# Altium footprint library dinhdung.PcbLib: 24 footprints (part 1 of 2)
Each footprint in its own frame and in the unit in brackets; x right, y up, seen from the top. Pads: shape width x height; smd on the part's side, far side on the other; paste and mask are expansions set on the pad; w line width, h text height; cw(c..) or ccw(c..) is an arc to the next point about the centre after c.
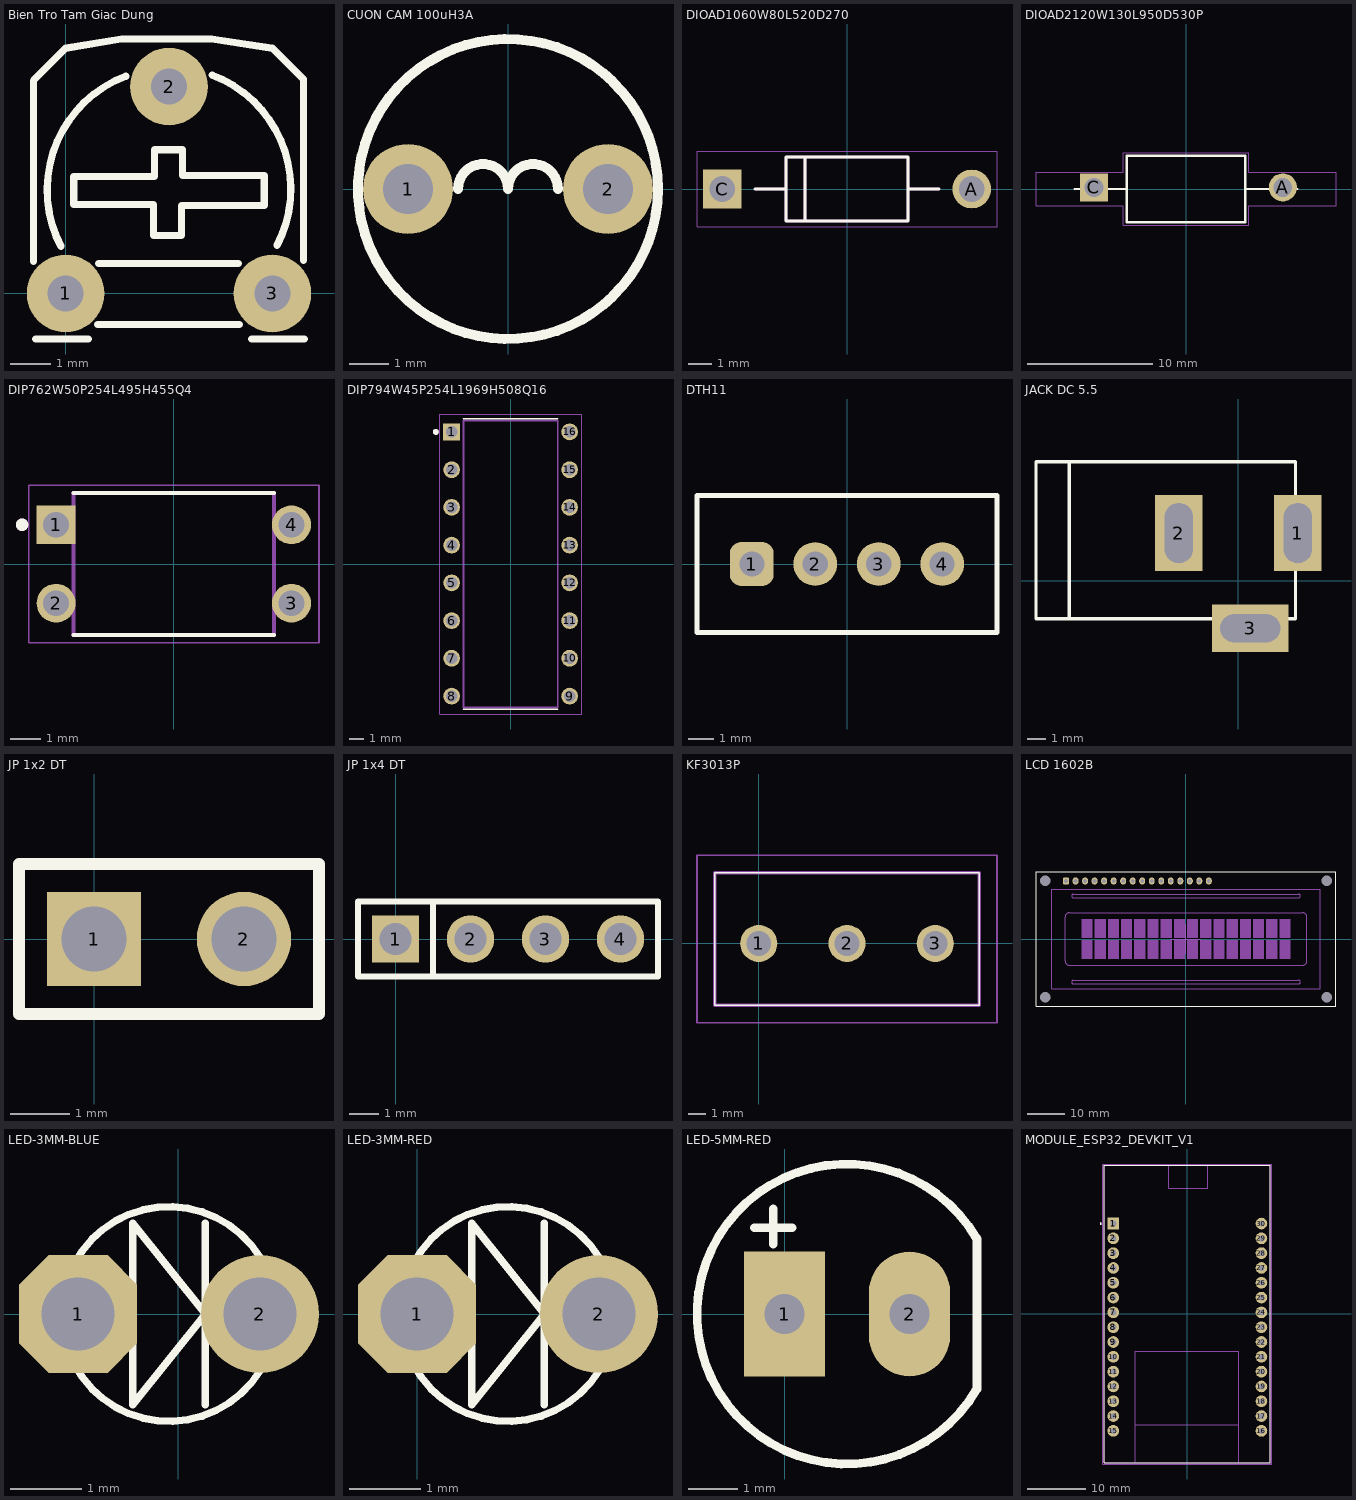
[diagram p0: the footprints below, top view; thin cyan lines are the x and y axes]

## Bien Tro Tam Giac Dung [mil]
pads (3):
  round 75 hole 35: 1(0,0) 2(100,200) 3(200,0)
Top Overlay:
  lines w7: -31,31 -31,206 0,237 54,246 141.5,246 200,237 230,207 230,32 ; -29,-44 22,-44 ; -4.35,45.34 cw(c100,100) 58.1,210.1 ; 8,113 8,86 85,86 85,56 112,56 112,85 192,85 192,114 113,114 113,139 86,139 86,113 9,113 ; 31,-30 168,-30 ; 32,29 167,29 ; 141.9,211.1 cw(c100,101) 204.35,46.34 ; 180,-44 231,-44
3D body "Bien TroTam Giac.step": height 278.74, standoff -150.39, extent -27.95,-49.68 227.95,227.88

## CUON CAM 100uH3A [mil]
pads (2):
  round 90 hole 50: 1(-100,0) 2(100,0)
Top Overlay:
  circle w10: c0,0 r150
  lines w10: -50,0 cw(c-25,0) 0,0 cw(c25,0) 50,0
3D body "cuon cam cam 1A.step": height 394.18, standoff -196.37, extent -171.27,-175.26 171.25,167.26

## DIOAD1060W80L520D270 [mm]
pads (2):
  round 1.65 hole 1.1: A(5.3,0)
  rect 1.65x1.65 / inner round 1.65 / far side rect 1.65x1.65 hole 1.1: C(-5.3,0)
Top Overlay:
  lines w0.127: -3.9,0 -2.6,0 ; 3.9,0 2.6,0 ; -2.6,0 -2.6,1.35 -1.775,1.35 ; -2.6,0 -2.6,-1.35 -1.775,-1.35 ; -1.775,-1.35 2.6,-1.35 2.6,0 ; -1.775,-1.35 -1.775,1.35 ; -1.775,1.35 2.6,1.35 2.6,0
Mechanical 13:
  lines w0.127: -3.9,0 -2.6,0 ; 3.9,0 2.6,0 ; -2.6,0 -2.6,1.35 -1.775,1.35 ; -2.6,0 -2.6,-1.35 -1.775,-1.35 ; -1.775,-1.35 2.6,-1.35 2.6,0 ; -1.775,-1.35 -1.775,1.35 ; -1.775,1.35 2.6,1.35 2.6,0
Mechanical 15:
  lines w0.05: -6.375,-1.6 6.375,-1.6 6.375,1.6 -6.375,1.6 -6.375,-1.6
3D body "step_temp.STEP": height 2.89, standoff -4.07, extent -5.926,-1.3 5.019,1.292

## DIOAD2120W130L950D530P [mm]
pads (2):
  round 2.25 hole 1.5: A(7.747,0.127)
  rect 2.25x2.25 / inner round 2.25 / far side rect 2.25x2.25 hole 1.5: C(-7.366,0.127)
Top Overlay:
  lines w0.2: -8.89,0 -4.8,0 ; 4.8,0 8.89,0 ; -4.75,-2.65 -4.75,2.65 4.75,2.65 4.75,-2.65 -4.75,-2.65
Mechanical 15:
  lines w0.05: -12,-1.35 -5,-1.35 -5,-2.9 5,-2.9 5,-1.35 12,-1.35 12,1.35 5,1.35 5,2.9 -5,2.9 -5,1.35 -12,1.35 -12,-1.35
3D body "step_temp.STEP": height 4.6, standoff -26.17, extent -8.001,-2.173 8.199,2.427

## DIP762W50P254L495H455Q4 [mm]
pads (4):
  rect 1.26x1.26 / inner round 1.26 / far side rect 1.26x1.26 hole 0.84: 1(-3.81,1.27)
  round 1.26 hole 0.84: 2(-3.81,-1.27) 3(3.81,-1.27) 4(3.81,1.27)
Top Overlay:
  circle w0.2: c-4.91,1.27 r0.1
  lines w0.127: -3.25,-2.3 3.25,-2.3 ; -3.25,2.3 3.25,2.3
Mechanical 13:
  circle w0.2: c-4.91,1.27 r0.1
  lines w0.127: -3.25,-2.3 -3.25,2.3 3.25,2.3 3.25,-2.3 -3.25,-2.3
Mechanical 15:
  lines w0.05: -4.7,-2.55 -4.7,2.55 4.7,2.55 4.7,-2.55 -4.7,-2.55
3D body "step_temp.STEP": height 4.55, standoff -3.6, extent -3.935,-2.3 3.935,2.3

## DIP794W45P254L1969H508Q16 [mm]
pads (16):
  rect 1.13x1.13 / inner round 1.13 / far side rect 1.13x1.13 hole 0.78: 1(-3.97,8.89)
  round 1.13 hole 0.78: 2(-3.97,6.35) 3(-3.97,3.81) 4(-3.97,1.27) 5(-3.97,-1.27) 6(-3.97,-3.81) 7(-3.97,-6.35) 8(-3.97,-8.89) 9(3.97,-8.89) 10(3.97,-6.35) 11(3.97,-3.81) 12(3.97,-1.27) 13(3.97,1.27) 14(3.97,3.81) 15(3.97,6.35) 16(3.97,8.89)
Top Overlay:
  circle w0.2: c-5.035,8.89 r0.1
  lines w0.127: -3.175,-9.775 3.175,-9.775 ; -3.175,9.775 3.175,9.775
Mechanical 13:
  circle w0.2: c-5.035,8.89 r0.1
  lines w0.127: -3.175,-9.653 3.175,-9.653 3.175,9.653 -3.175,9.653 -3.175,-9.653
Mechanical 15:
  lines w0.05: -4.785,-10.095 4.785,-10.095 4.785,10.095 -4.785,10.095 -4.785,-10.095
3D body "step_temp.STEP": height 5.08, standoff -3.3, extent -3.95,-10.67 3.95,10.67

## DTH11 [mm]
pads (4):
  rrect50% 1.75x1.75 hole 1: 1(-3.81,0)
  round 1.75 hole 1: 2(-1.27,0) 3(1.27,0) 4(3.81,0)
Top Overlay:
  lines w0.2: -6,-2.75 -6,2.75 6,2.75 6,-2.75 -6,-2.75
3D body "User Library-DHT11.step": height 15.75, standoff -7.75, extent -6,-2.75 6,2.75

## JACK DC 5.5 [mm]
pads (3):
  rect 2.54x4.064 hole 1.5 slot 3.2 at 90 deg: 1(3.175,2.54) 2(-3.175,2.54)
  rect 4.064x2.54 hole 1.5 slot 3.2 at 0 deg: 3(0.635,-2.54)
Top Overlay:
  lines w0.178: -9.017,-2.032 -9.017,6.35 ; -10.795,-2.032 -10.795,6.35 3.048,6.35 3.048,-2.032 -10.795,-2.032
3D body "SW3dPS-dc range - dc connector[4840.2201].STEP": height 11.02, standoff -3.48, extent -10.423,-2.67 3.404,6.836

## JP 1x2 DT [mm]
pads (2):
  rect 1.6x1.6 hole 1.1: 1(0,0)
  round 1.6 hole 1.1: 2(2.54,0)
Top Overlay:
  lines w0.2: -1.27,-1.27 3.81,-1.27 3.81,1.27 -1.27,1.27 -1.27,-1.27
3D body "61300211121.stp": height 8.54, standoff -3, extent -1.27,-1.27 3.81,1.27

## JP 1x4 DT [mm]
pads (4):
  rect 1.6x1.6 hole 1.1: 1(0,0)
  round 1.6 hole 1.1: 2(2.54,0) 3(5.08,0) 4(7.62,0)
Top Overlay:
  lines w0.2: 1.27,-1.27 1.27,1.27 ; -1.27,-1.27 8.89,-1.27 8.89,1.27 -1.27,1.27 -1.27,-1.27
3D body "61300411121.stp": height 8.54, standoff -3, extent -1.27,-1.27 8.89,1.27

## KF3013P [mm]
pads (3):
  round 2.1 hole 1.4: 1(0,0) 2(5,0) 3(10,0)
Top Overlay:
  lines w0.1: -2.5,-3.5 12.5,-3.5 12.5,4 -2.5,4 -2.5,-3.5
Mechanical 15:
  lines w0.2: -2.5,-3.5 12.5,-3.5 12.5,4 -2.5,4 -2.5,-3.5
Mechanical 20:
  lines w0.1: -3.5,-4.5 13.5,-4.5 13.5,5 -3.5,5 -3.5,-4.5

## LCD 1602B [mm]
pads (20):
  rrect50% 1.575x1.905 hole 0.991: 1(-32,15.46)
  oval 1.575x1.905 hole 0.991: 2(-29.46,15.46) 3(-26.92,15.46) 4(-24.38,15.46) 5(-21.84,15.46) 6(-19.3,15.46) 7(-16.76,15.46) 8(-14.22,15.46) 9(-11.68,15.46) 10(-9.14,15.46) 11(-6.6,15.46) 12(-4.06,15.46) 13(-1.52,15.46) 14(1.02,15.46) 15(3.56,15.46) 16(6.1,15.46)
  round 0 hole 2.8: HOLE(-37.55,15.5) HOLF(37.55,15.5) HOLG(37.55,-15.5) HOLH(-37.55,-15.5)
Top Overlay:
  lines w0.254: -40,-18 -40,18 40,18 40,-18 -40,-18
Mechanical 1:
  lines w0.203: -4,0 4,0 ; 0,-4 0,4
Mechanical 13:
  rectangle: 24.9,0.3 27.9,5.32
  rectangle: 24.9,-5.32 27.9,-0.3
  rectangle: 21.38,0.3 24.38,5.32
  rectangle: 21.38,-5.32 24.38,-0.3
  rectangle: 17.86,0.3 20.86,5.32
  rectangle: 17.86,-5.32 20.86,-0.3
  rectangle: 14.34,0.3 17.34,5.32
  rectangle: 14.34,-5.32 17.34,-0.3
  rectangle: 10.82,0.3 13.82,5.32
  rectangle: 10.82,-5.32 13.82,-0.3
  rectangle: 7.3,0.3 10.3,5.32
  rectangle: 7.3,-5.32 10.3,-0.3
  rectangle: 3.78,0.3 6.78,5.32
  rectangle: 3.78,-5.32 6.78,-0.3
  rectangle: 0.26,0.3 3.26,5.32
  rectangle: 0.26,-5.32 3.26,-0.3
  rectangle: -3.26,0.3 -0.26,5.32
  rectangle: -3.26,-5.32 -0.26,-0.3
  rectangle: -6.78,0.3 -3.78,5.32
  rectangle: -6.78,-5.32 -3.78,-0.3
  rectangle: -10.3,0.3 -7.3,5.32
  rectangle: -10.3,-5.32 -7.3,-0.3
  rectangle: -13.82,0.3 -10.82,5.32
  rectangle: -13.82,-5.32 -10.82,-0.3
  rectangle: -17.34,0.3 -14.34,5.32
  rectangle: -17.34,-5.32 -14.34,-0.3
  rectangle: -20.86,0.3 -17.86,5.32
  rectangle: -20.86,-5.32 -17.86,-0.3
  rectangle: -24.38,0.3 -21.38,5.32
  rectangle: -24.38,-5.32 -21.38,-0.3
  rectangle: -27.9,-5.32 -24.9,-0.3
  rectangle: -27.9,0.3 -24.9,5.32
  lines w0.203: -35.75,-13.25 -35.75,13.25 35.75,13.25 35.75,-13.25 -35.75,-13.25 ; -32.25,-5.75 ccw(c-31,-5.75) -31,-7 31,-7 ccw(c31,-5.75) 32.25,-5.75 32.25,5.75 ccw(c31,5.75) 31,7 -31,7 ccw(c-31,5.75) -32.25,5.75 -32.25,-5.75 ; -30,-12 cw(c-30,-11.5) -30,-11 30,-11 cw(c30,-11.5) 30,-12 -30,-12 ; -30,11 cw(c-30,11.5) -30,12 30,12 cw(c30,11.5) 30,11 -30,11
3D body "User Library-AC162B.step": height 11, standoff -2.9, extent -40,-18 40,18

## LED-3MM-BLUE [mil]
pads (2):
  oct 65x65 hole 40: 1(-55,0)
  round 65 hole 40: 2(45,0)
Top Overlay:
  circle w4: c-5,0 r59.06
  lines w4: 15,-50 15,0 ; 15,50 15,0 ; 15,0 -25,-50 -25,50 15,0
3D body "User Library-LED_d3-BLU.STEP": height 184.06, standoff -110.24, extent -72.46,-64.95 54.06,64.96

## LED-3MM-RED [mil]
pads (2):
  oct 65x65 hole 40: 1(0,0)
  round 65 hole 40: 2(100,0)
Top Overlay:
  circle w4: c50,0 r59.06
  lines w4: 70,-50 70,0 ; 70,50 70,0 ; 70,0 30,50 30,-50 70,0
3D body "User Library-LED-D3R.step": height 181.1, standoff -255.91, extent -27.18,-77.48 117.18,80

## LED-5MM-RED [mil]
pads (2):
  rect 65x100 hole 32: 1(0,0)
  oval 65x100 hole 32: 2(100,0)
Top Overlay:
  lines w7: -24,69 6,69 ; -9,56 -9,84 ; 153.51,60.71 ccw(c50,0) 153.94,-59.97 ; 154,-59 154,60
3D body "SW3dPS-LEDd5R.STEP": height 339.18, standoff -243.49, extent -64.69,-119 148.69,117.99

## MODULE_ESP32_DEVKIT_V1 [mm]
pads (30):
  rect 2x2 / inner round 2 / far side rect 2x2 hole 1.02: 1(-12.7,15.494)
  round 2 hole 1.02: 2(-12.7,12.954) 3(-12.7,10.414) 4(-12.7,7.874) 5(-12.7,5.334) 6(-12.7,2.794) 7(-12.7,0.254) 8(-12.7,-2.286) 9(-12.7,-4.826) 10(-12.7,-7.366) 11(-12.7,-9.906) 12(-12.7,-12.446) 13(-12.7,-14.986) 14(-12.7,-17.526) 15(-12.7,-20.066) 16(12.7,-20.066) 17(12.7,-17.526) 18(12.7,-14.986) 19(12.7,-12.446) 20(12.7,-9.906) 21(12.7,-7.366) 22(12.7,-4.826) 23(12.7,-2.286) 24(12.7,0.254) 25(12.7,2.794) 26(12.7,5.334) 27(12.7,7.874) 28(12.7,10.414) 29(12.7,12.954) 30(12.7,15.494)
Top Overlay:
  circle w0.2: c-14.85,15.494 r0.1
  lines w0.127: -14.28,-25.496 14.23,-25.496 ; -14.28,-25.496 -14.28,25.454 ; -14.28,-25.496 -14.28,25.454 ; -14.28,-25.496 -8.91,-25.496 8.78,-25.496 14.23,-25.496 ; -14.28,25.454 14.23,25.454 ; -14.28,25.454 -3.211,25.454 3.5,25.454 14.23,25.454 ; 14.23,-25.496 14.23,25.454 ; 14.23,-25.496 14.23,25.454
Mechanical 13:
  circle w0.2: c-14.85,15.494 r0.1
  lines w0.127: -8.91,-25.496 -14.28,-25.496 -14.28,25.454 -3.211,25.454 ; -8.91,-25.496 8.78,-25.496 ; -8.91,-25.496 -8.91,-19.006 ; -8.91,-19.006 -8.91,-6.376 8.78,-6.376 8.78,-19.006 ; -8.91,-19.006 8.78,-19.006 ; -3.211,25.454 3.5,25.454 ; -3.211,25.454 -3.211,21.564 3.5,21.564 3.5,25.454 ; 3.5,25.454 14.23,25.454 14.23,-25.496 8.78,-25.496 ; 8.78,-25.496 8.78,-19.006
Mechanical 15:
  lines w0.05: -14.53,-25.746 -14.53,25.704 14.48,25.704 14.48,-25.746 -14.53,-25.746
3D body "step_temp.STEP": height 7.05, standoff -6, extent -14.1,-25.921 14.1,26.529